# Altium footprint library QUTMS_SwitchLibrary.PcbLib: 4 footprints
Each footprint in its own frame and in the unit in brackets; x right, y up, seen from the top. Pads: shape width x height; smd on the part's side, far side on the other; paste and mask are expansions set on the pad; w line width, h text height; cw(c..) or ccw(c..) is an arc to the next point about the centre after c.
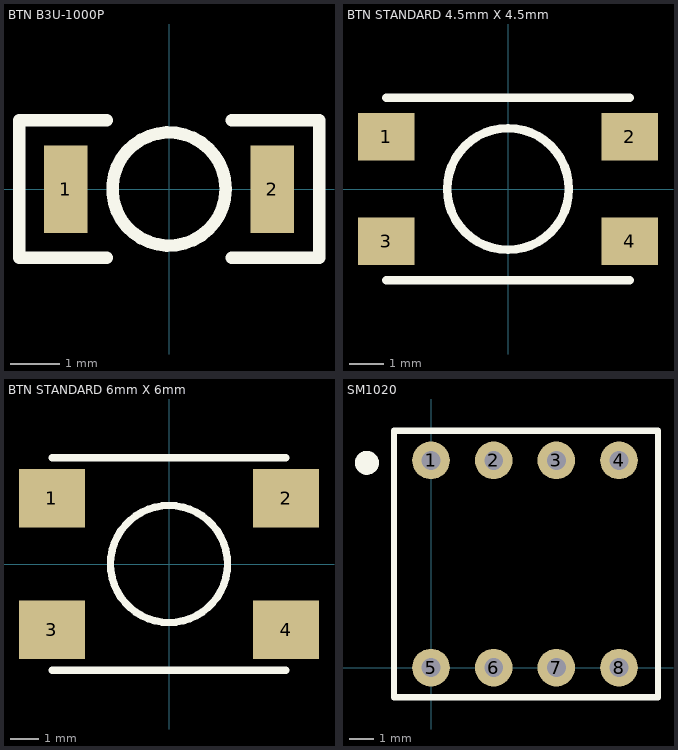
[diagram p0: the footprints below, top view; thin cyan lines are the x and y axes]

## BTN B3U-1000P [mil] "OMRON B3U-1000P"
pads (2):
  rect 35x70 smd: 1(-82.68,0) 2(82.68,0)
Top Overlay:
  circle w10: c0,0 r45.28
  lines w10: -50,-55 -120,-55 -120,55 -50,55 ; 50,-55 120,-55 120,55 50,55
3D body "B3U_1000P.step": height 62.99, standoff 0, extent -78.74,-49.21 78.74,49.22

## BTN STANDARD 4.5mm X 4.5mm [mil]
pads (4):
  rect 65x55 smd: 1(-140,60) 2(140,60) 3(-140,-60) 4(140,-60)
Top Overlay:
  circle w10: c0,0 r70
  lines w10: -140,-105 140,-105 ; -140,105 140,105
3D body "Tact Switch 4.5mm SMT.step": height 165.35, standoff 0, extent -147.64,-88.58 147.64,88.59

## BTN STANDARD 6mm X 6mm [mil]
pads (4):
  rect 90x80 smd: 1(-160,90) 2(160,90) 3(-160,-90) 4(160,-90)
Top Overlay:
  circle w10: c0,0 r80
  lines w10: -160,-145 160,-145 ; -160,145 160,145
3D body "Tactal Switch - SMD (6mmx 6mmx 5mm) - Marked.stp": height 196.85, standoff 0, extent -177.5,-118.75 177.5,118.75

## SM1020 [mil]
pads (8):
  round 60 hole 30: 1(0,330.71) 2(100,330.71) 3(200,330.71) 4(300,330.71) 5(0,0) 6(100,0) 7(200,0) 8(300,0)
Top Overlay:
  circle w10: c-102.36,326.77 r0
  circle w10: c-102.36,326.77 r7.87
  circle w10: c-102.36,326.77 r14.2
  lines w10: -59.06,-47.24 62.01,-47.24 241.14,-47.24 362.2,-47.24 362.2,377.95 -59.06,377.95 -59.06,-47.24
3D body: height 10, standoff 0, extent 190,-20 190,-20
3D body: height 10, standoff 0, extent 200,-10 200,-10
3D body: height 10, standoff 0, extent 85,-5 85,-5
3D body: height 118.11, standoff 0, extent -30,0 330.71,330.71
3D body: height 10, standoff 0, extent -30,160 -30,160